# Altium footprint library 指南者.PcbLib: 53 footprints (part 3 of 4)
Each footprint in its own frame and in the unit in brackets; x right, y up, seen from the top. Pads: shape width x height; smd on the part's side, far side on the other; paste and mask are expansions set on the pad; w line width, h text height; cw(c..) or ccw(c..) is an arc to the next point about the centre after c.
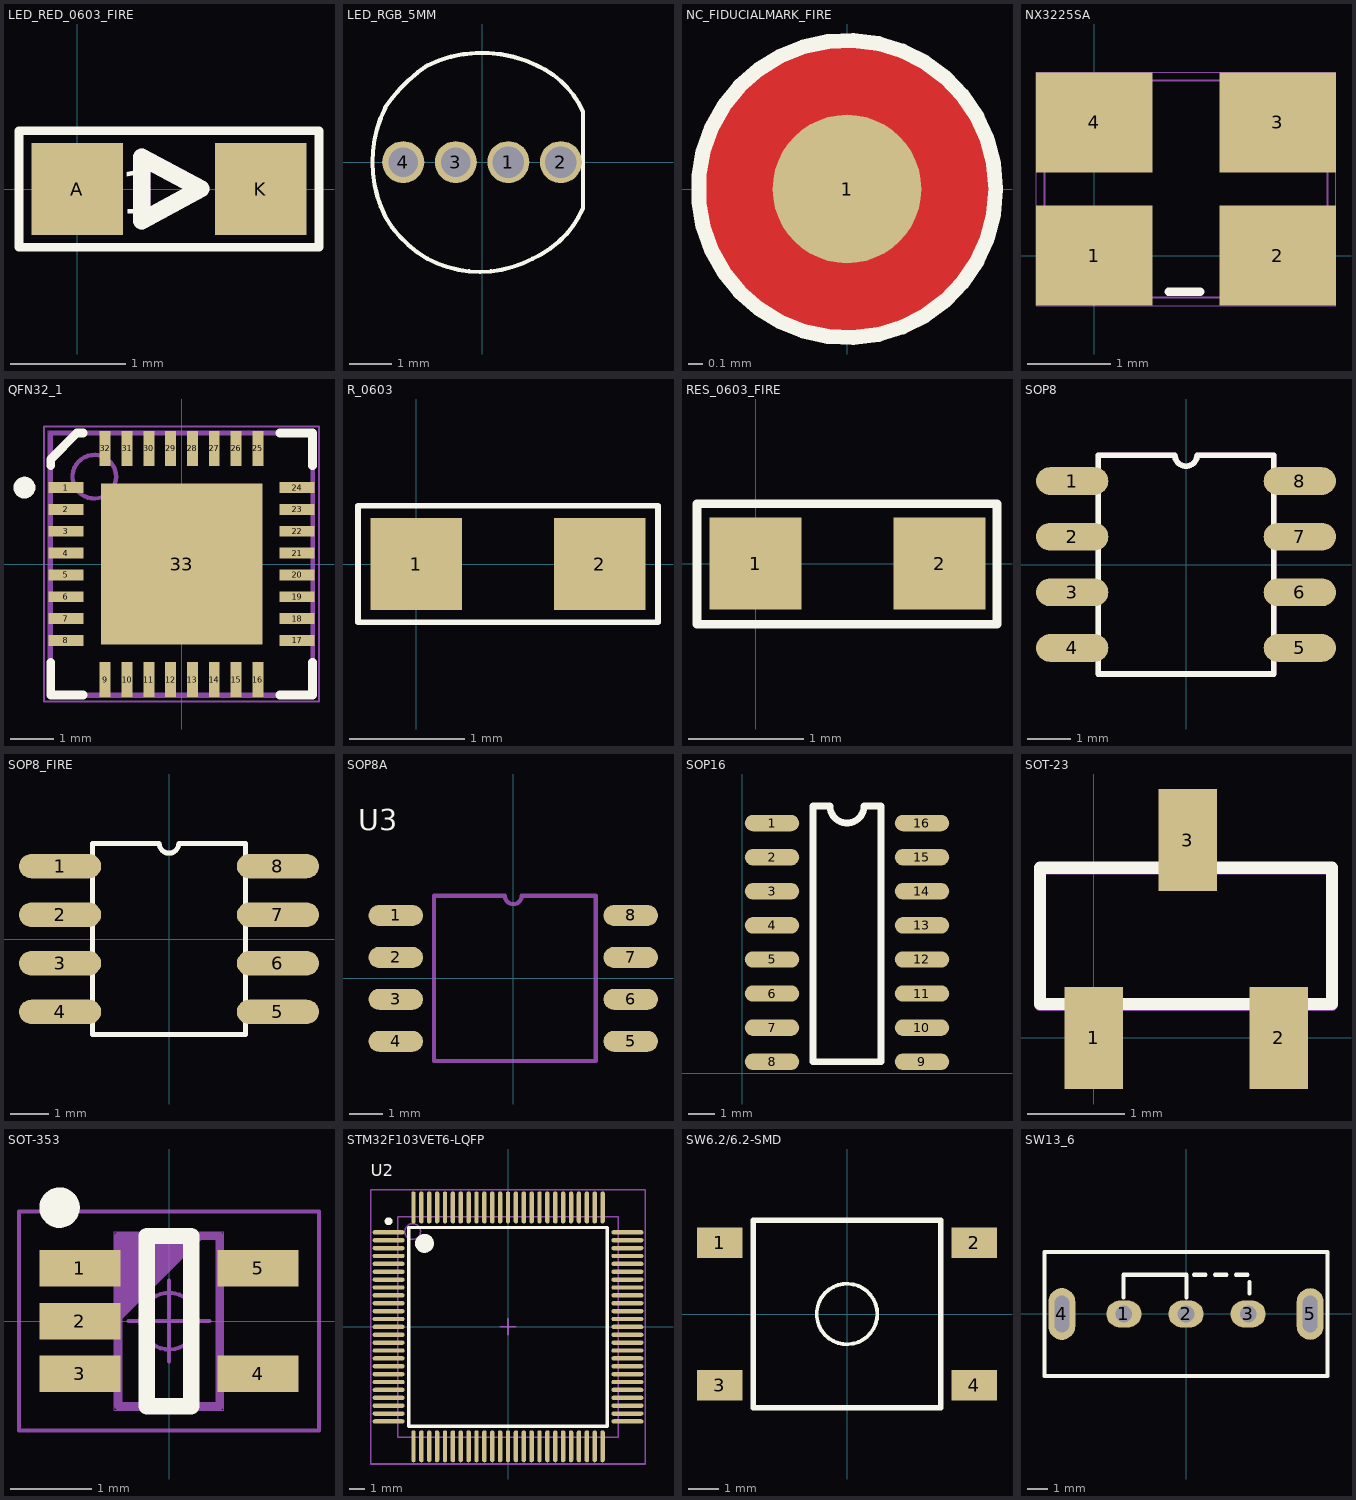
[diagram p2: the footprints below, top view; thin cyan lines are the x and y axes]

## LED_RED_0603_FIRE [mm]
pads (2):
  rect 0.8x0.8 smd: A(0,0) K(1.6,0)
Top Overlay:
  lines w0.076: -0.508,-0.508 2.108,-0.508 2.108,0.508 -0.508,0.508 -0.508,-0.508
  lines w0.152: 0.562,-0.277 1.076,0.001 0.562,0.277 0.562,-0.277
  text "D1" at -0.026,-0.214 h0.38
Mechanical 1:
  lines w0.152: 0.562,-0.277 1.076,0.001 0.562,0.277 0.562,-0.277

## LED_RGB_5MM [mm]
pads (4):
  round 1 hole 0.75: 1(0.625,0) 2(1.875,0)
  round 1 hole 0.7: 3(-0.625,0) 4(-1.875,0)
Top Overlay:
  lines w0.1: -2.301,1.297 ccw(c0.3,0) -2.299,-1.302 ; -2.299,-1.301 ccw(c0.05,0.05) -1.301,-2.299 ; -2.299,1.302 cw(c0.65,-0.65) -1.297,2.302 ; -1.3,-2.3 ccw(c-0.05,0.05) 1.2,-2.3 ; -1.299,2.301 cw(c0,-0.35) 1.303,2.298 ; 1.202,-2.299 ccw(c0.25,-0.15) 2.401,-1.099 ; 1.302,2.299 cw(c0.45,0.35) 2.401,1.198 ; 2.4,-1.1 2.4,1.2
  text "D3" at 0.228,-0.214 h0.38

## NC_FIDUCIALMARK_FIRE [mm]
pads (1):
  round 1 smd: 1(0,0)
Top Layer:
  pour cut-out: 1.009,0 0.974,0.261 0.873,0.504 0.713,0.713 0.504,0.873 0.261,0.974 0,1.009 -0.261,0.974 -0.504,0.873 -0.713,0.713 -0.873,0.504 -0.974,0.261 -1.009,0 -0.974,-0.261 -0.873,-0.504 -0.713,-0.713 -0.504,-0.873 -0.261,-0.974 0,-1.009 0.261,-0.974 0.504,-0.873 0.713,-0.713 0.873,-0.504 0.974,-0.261
Top Overlay:
  circle w0.1: c0,0 r1
Top Solder:
  region: 1.009,0 0.974,0.261 0.873,0.504 0.713,0.713 0.504,0.873 0.261,0.974 0,1.009 -0.261,0.974 -0.504,0.873 -0.713,0.713 -0.873,0.504 -0.974,0.261 -1.009,0 -0.974,-0.261 -0.873,-0.504 -0.713,-0.713 -0.504,-0.873 -0.261,-0.974 0,-1.009 0.261,-0.974 0.504,-0.873 0.713,-0.713 0.873,-0.504 0.974,-0.261

## NX3225SA [mm]
pads (4):
  rect 1.4x1.2 smd paste-0.06 mask+0.05: 1(0,0) 2(2.2,0) 3(2.2,1.6) 4(0,1.6)
Top Overlay:
  lines w0.1: 0.889,-0.432 1.27,-0.432
Mechanical 16:
  lines w0.003: -0.7,-0.6 -0.7,2.2 2.9,2.2 2.9,-0.6 -0.7,-0.6
  lines w0.025: -0.6,-0.5 -0.6,2.1 2.8,2.1 2.8,-0.5 -0.6,-0.5

## QFN32_1 [mm]
height 0.8
pads (33):
  rect 0.8x0.25 smd: 1(-2.65,1.75) 2(-2.65,1.25) 3(-2.65,0.75) 4(-2.65,0.25) 5(-2.65,-0.25) 6(-2.65,-0.75) 7(-2.65,-1.25) 8(-2.65,-1.75) 17(2.65,-1.75) 18(2.65,-1.25) 19(2.65,-0.75) 20(2.65,-0.25) 21(2.65,0.25) 22(2.65,0.75) 23(2.65,1.25) 24(2.65,1.75)
  rect 0.25x0.8 smd: 9(-1.75,-2.65) 10(-1.25,-2.65) 11(-0.75,-2.65) 12(-0.25,-2.65) 13(0.25,-2.65) 14(0.75,-2.65) 15(1.25,-2.65) 16(1.75,-2.65) 25(1.75,2.65) 26(1.25,2.65) 27(0.75,2.65) 28(0.25,2.65) 29(-0.25,2.65) 30(-0.75,2.65) 31(-1.25,2.65) 32(-1.75,2.65)
  rect 3.7x3.7 smd paste-0.49: 33(0,0)
Top Overlay:
  circle w0.25: c-3.6,1.75 r0.125
  lines w0.2: -3,-2.25 -3,-3 -2.25,-3 ; -3,2.25 -3,2.4 -2.4,3 -2.25,3 ; 2.25,-3 3,-3 3,-2.25 ; 2.25,3 3,3 3,2.25
Mechanical 1:
  circle w0.1: c-2,2 r0.5
  lines w0.1: -3,-3 -3,3 3,3 3,-3 -3,-3
Mechanical 16:
  circle w0.05: c0,0 r0.35
  lines w0.001: -3.05,-3.05 -3.05,3.05 3.05,3.05 3.05,-3.05 -3.05,-3.05
  lines w0.05: -0.5,0 0.5,0 ; 0,-0.5 0,0.5 ; -3.15,-3.15 -3.15,3.15 3.15,3.15 3.15,-3.15 -3.15,-3.15

## R_0603 [mm]
pads (2):
  rect 0.8x0.8 smd: 1(0,0) 2(1.6,0)
Top Overlay:
  lines w0.051: -0.508,-0.508 2.108,-0.508 2.108,0.508 -0.508,0.508 -0.508,-0.508

## RES_0603_FIRE [mm]
pads (2):
  rect 0.8x0.8 smd: 1(0,0) 2(1.6,0)
Top Overlay:
  lines w0.076: -0.51,-0.528 2.099,-0.528 2.099,0.52 -0.51,0.52 -0.51,-0.528

## SOP8 [mm]
pads (8):
  oval 1.651x0.635 smd: 1(-2.6,1.905) 2(-2.6,0.635) 3(-2.6,-0.635) 4(-2.6,-1.905) 5(2.6,-1.905) 6(2.6,-0.635) 7(2.6,0.635) 8(2.6,1.905)
Top Overlay:
  lines w0.127: -2,-2.5 -2,2.5 -0.254,2.5 ccw(c0,2.5) 0.254,2.5 2,2.5 2,-2.5 -2,-2.5
Mechanical 1:
  lines w0.127: -2,-2.5 -2,2.5 -0.254,2.5 ccw(c0,2.5) 0.254,2.5 2,2.5 2,-2.5 -2,-2.5

## SOP8_FIRE [mm]
pads (8):
  oval 2.151x0.635 smd: 1(-2.85,1.905) 2(-2.85,0.635) 3(-2.85,-0.635) 4(-2.85,-1.905) 5(2.85,-1.905) 6(2.85,-0.635) 7(2.85,0.635) 8(2.85,1.905)
Top Overlay:
  lines w0.127: -2,-2.5 -2,2.5 -0.254,2.5 ccw(c0,2.5) 0.254,2.5 2,2.5 2,-2.5 -2,-2.5
Mechanical 1:
  lines w0.127: -2,-2.5 -2,2.5 -0.254,2.5 ccw(c0,2.5) 0.254,2.5 2,2.5 2,-2.5 -2,-2.5

## SOP8A [mil]
pads (8):
  oval 65x25 smd: 1(-140,75) 2(-140,25) 3(-140,-25) 4(-140,-75) 5(140,-75) 6(140,-25) 7(140,25) 8(140,75)
Top Overlay:
  text "U3" at -185.04,176.31 h25
Mechanical 1:
  lines w5: -94.49,-98.43 -94.49,98.43 -10,98.43 ccw(c0,98.43) 10,98.43 98.43,98.43 98.43,-98.43 -94.49,-98.43

## SOP16 [mil]
pads (16):
  oval 80x24 smd: 1(44,367) 2(44,317) 3(44,267) 4(44,217) 5(44,167) 6(44,117) 7(44,67) 8(44,17) 9(264,17) 10(264,67) 11(264,117) 12(264,167) 13(264,217) 14(264,267) 15(264,317) 16(264,367)
Top Overlay:
  lines w10: 104,17 204,17 204,392 179,392 cw(c154,392) 129,392 104,392 104,17

## SOT-23 [mm]
pads (3):
  rect 0.6x1.05 smd: 1(0,0) 2(1.9,0) 3(0.965,2.032)
Top Overlay:
  lines w0.127: -0.553,0.348 2.447,0.348 2.447,1.748 -0.553,1.748 -0.553,0.348
Mechanical 1:
  lines w0.127: -0.554,0.342 2.446,0.342 2.446,1.742 -0.554,1.742 -0.554,0.342

## SOT-353 [mm]
height 1.1
pads (5):
  rect 1x0.45 smd: 1(-1.1,0.65) 2(-1.1,0) 3(-1.1,-0.65) 4(1.1,-0.65) 5(1.1,0.65)
Top Overlay:
  circle w0.25: c-1.35,1.4 r0.125
  lines w0.2: -0.275,-1.05 0.275,-1.05 0.275,1.05 -0.275,1.05 -0.275,-1.05
Mechanical 1:
  lines w0.1: -0.625,0.05 0.375,1.05 ; -0.625,0.15 0.275,1.05 ; -0.625,0.25 0.175,1.05 ; -0.625,0.35 0.075,1.05 ; -0.625,0.45 -0.025,1.05 ; -0.625,0.55 -0.125,1.05 ; -0.625,0.65 -0.225,1.05 ; -0.625,0.75 -0.325,1.05 ; -0.625,0.85 -0.425,1.05 ; -0.625,0.95 -0.525,1.05 ; -0.625,-1.05 0.625,-1.05 0.625,1.05 -0.625,1.05 -0.625,-1.05
Mechanical 16:
  circle w0.05: c0,0 r0.35
  lines w0.001: -0.675,-1.1 0.675,-1.1 0.675,1.1 -0.675,1.1 -0.675,-1.1
  lines w0.05: -0.5,0 0.5,0 ; 0,-0.5 0,0.5 ; -1.85,-1.35 1.85,-1.35 1.85,1.35 -1.85,1.35 -1.85,-1.35

## STM32F103VET6-LQFP [mil]
height 62.99
pads (100):
  oval 80x11 smd: 1(-298.23,236.22) 2(-298.23,216.54) 3(-298.23,196.85) 4(-298.23,177.17) 5(-298.23,157.48) 6(-298.23,137.8) 7(-298.23,118.11) 8(-298.23,98.43) 9(-298.23,78.74) 10(-298.23,59.06) 11(-298.23,39.37) 12(-298.23,19.68) 13(-298.23,0) 14(-298.23,-19.69) 15(-298.23,-39.37) 16(-298.23,-59.06) 17(-298.23,-78.74) 18(-298.23,-98.43) 19(-298.23,-118.11) 20(-298.23,-137.8) 21(-298.23,-157.48) 22(-298.23,-177.17) 23(-298.23,-196.85) 24(-298.23,-216.54) 25(-298.23,-236.22) 51(298.23,-236.22) 52(298.23,-216.54) 53(298.23,-196.85) 54(298.23,-177.17) 55(298.23,-157.48) 56(298.23,-137.8) 57(298.23,-118.11) 58(298.23,-98.43) 59(298.23,-78.74) 60(298.23,-59.06) 61(298.23,-39.37) 62(298.23,-19.69) 63(298.23,0) 64(298.23,19.68) 65(298.23,39.37) 66(298.23,59.06) 67(298.23,78.74) 68(298.23,98.43) 69(298.23,118.11) 70(298.23,137.8) 71(298.23,157.48) 72(298.23,177.17) 73(298.23,196.85) 74(298.23,216.54) 75(298.23,236.22)
  oval 11x80 smd: 26(-236.22,-298.23) 27(-216.54,-298.23) 28(-196.85,-298.23) 29(-177.17,-298.23) 30(-157.48,-298.23) 31(-137.8,-298.23) 32(-118.11,-298.23) 33(-98.43,-298.23) 34(-78.74,-298.23) 35(-59.06,-298.23) 36(-39.37,-298.23) 37(-19.68,-298.23) 38(0,-298.23) 39(19.69,-298.23) 40(39.37,-298.23) 41(59.06,-298.23) 42(78.74,-298.23) 43(98.43,-298.23) 44(118.11,-298.23) 45(137.8,-298.23) 46(157.48,-298.23) 47(177.17,-298.23) 48(196.85,-298.23) 49(216.54,-298.23) 50(236.22,-298.23) 76(236.22,298.23) 77(216.54,298.23) 78(196.85,298.23) 79(177.17,298.23) 80(157.48,298.23) 81(137.8,298.23) 82(118.11,298.23) 83(98.43,298.23) 84(78.74,298.23) 85(59.06,298.23) 86(39.37,298.23) 87(19.69,298.23) 88(0,298.23) 89(-19.68,298.23) 90(-39.37,298.23) 91(-59.06,298.23) 92(-78.74,298.23) 93(-98.43,298.23) 94(-118.11,298.23) 95(-137.8,298.23) 96(-157.48,298.23) 97(-177.17,298.23) 98(-196.85,298.23) 99(-216.54,298.23) 100(-236.22,298.23)
Top Overlay:
  circle w9.84: c-298.23,263.78 r4.92
  circle w23.62: c-208.66,208.66 r11.81
  lines w7.87: -248.03,-248.03 -248.03,248.03 248.03,248.03 248.03,-248.03 -248.03,-248.03
  text "U2" at -342.62,376.89 h30
Mechanical 16:
  circle w3.94: c-238.19,238.19 r19.68
  lines w3.94: -19.68,0 19.69,0 ; 0,-19.69 0,19.68 ; -342.52,-342.52 -342.52,342.52 342.52,342.52 342.52,-342.52 -342.52,-342.52 ; -275.59,-275.59 -275.59,275.59 275.59,275.59 275.59,-275.59 -275.59,-275.59

## SW6.2/6.2-SMD [mm]
pads (4):
  rect 1.5x1 smd: 1(-4.2,2.35) 2(4.2,2.35) 3(-4.2,-2.35) 4(4.2,-2.35)
Top Overlay:
  circle w0.127: c0,0 r1
  lines w0.178: -3.1,-3.1 -3.1,3.1 3.1,3.1 3.1,-3.1 -3.1,-3.1

## SW13_6 [mm]
pads (5):
  oval 1.7x1.3 hole 0.8: 1(-3,0) 2(0,0) 3(3,0)
  oval 1.3x2.5 hole 0.7 slot 1.778 at 90 deg: 4(-6,0) 5(6,0)
Top Overlay:
  lines w0.203: -3.023,0.8 -3.023,1.9 0.025,1.9 0.025,0.8 ; 0.381,1.9 0.94,1.9 ; 1.397,1.9 1.956,1.9 ; 2.413,1.9 2.972,1.9 ; 3.073,0.984 3.073,1.543 ; -6.833,-3 6.833,-3 6.833,3 -6.833,3 -6.833,-3